# EAGLE library part 1054070 (library 1054070)
DMCV 1,5/10-G1F-3,5-LR P35 - PCB headers, nominal cross section: 1.5 mm2, color: green, nominal current: 8 A, rated voltage (III/2): 160 V, contact surface: Sn, contact connection type: Pin, number of potentials: 20, number of rows: 2, number of positions: 10, number of connections: 20, product range: DMCV 1,5/..-G1F, pitch: 3.5 mm, mounting: THR soldering / wave soldering, pin layout: Linear pinning, solder pin [P]: 3.5 mm, number of solder pins per potential: 1, plug-in system: COMBICON DFMC 1, Source: Datasheet <https://www.phoenixcontact.com/en-us/products/pcb-header-dmcv-1510-g1f-35-lr-p35-1054070?type=pdf>
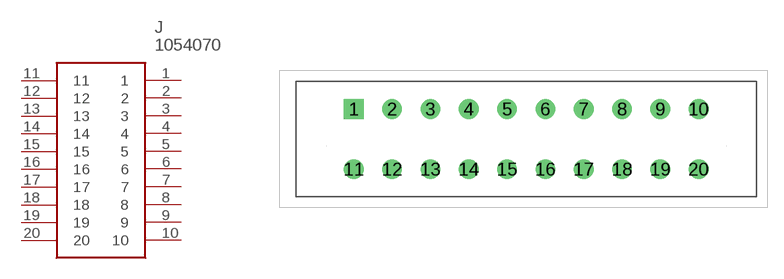
[diagram p0: symbol with the pads of 1054070; footprint 1054070]

Designator prefix J

## 1054070 (Description: DMCV 1,5/10-G1F-3,5-LR P35 - PCB headers, nominal cross section: 1.5 mm<sup>2</sup>, color: green, nominal current: 8 A, rated voltage (III/2): 160 V, contact surface: Sn, contact connection type: Pin, number of potentials: 20, number of rows: 2, number of positions: 10, number of connections: 20, product range: DMCV 1,5/..-G1F, pitch: 3.5 mm, mounting: THR soldering / wave soldering, pin layout: Linear pinning, solder pin [P]: 3.5 mm, number of solder pins per potential: 1, plug-in system: COMBICON DFMC 1,; Height: 10.15mm; Manufacturer_Name: Phoenix Contact; Manufacturer_Part_Number: 1054070; Mouser_Part_Number: 651-1054070; Mouser_Price-Stock: https://www.mouser.co.uk/ProductDetail/Phoenix-Contact/1054070?qs=byeeYqUIh0NdewqB%252B7TATw%3D%3D)  [1054070]
1  1
2  2
3  3
4  4
5  5
6  6
7  7
8  8
9  9
10  10
11  11
12  12
13  13
14  14
15  15
16  16
17  17
18  18
19  19
20  20

## Footprint 1054070 (pad centres in mm)
1054070
drill 1.2 pad 1.8 square: 1 0,0
drill 1.2 pad 1.8: 2 3.5,0; 3 7,0; 4 10.5,0; 5 14,0; 6 17.5,0; 7 21,0; 8 24.5,0; 9 28,0; 10 31.5,0; 11 0,-5.5; 12 3.5,-5.5; 13 7,-5.5; 14 10.5,-5.5; 15 14,-5.5; 16 17.5,-5.5; 17 21,-5.5; 18 24.5,-5.5; 19 28,-5.5; 20 31.5,-5.5